# EAGLE library part B14B-PH-* (library jst-ph1)
Wire-to-Board 2.0mm pitch top mount connector Source: http://www.jst-mfg.com/product/pdf/jpn/PH.pdf http://www.jst-mfg.com/product/detail.php?series=199
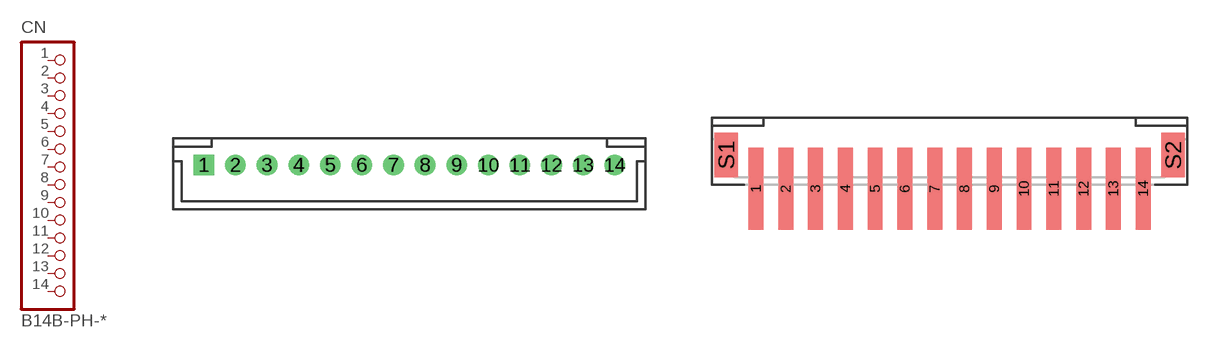
[diagram p8: symbol with the pads of B14B-PH-K-S; footprints B14B-PH-K-S, B14B-PH-SM4-TB]

Designator prefix CN

## B14B-PH-K-S  [B14B-PH-K-S]
1  1  pas
2  2  pas
3  3  pas
4  4  pas
5  5  pas
6  6  pas
7  7  pas
8  8  pas
9  9  pas
10  10  pas
11  11  pas
12  12  pas
13  13  pas
14  14  pas

## B14B-PH-SM4-TB  [B14B-PH-SM4-TB]
Pads as for B14B-PH-K-S

## Footprint B14B-PH-K-S (pad centres in mm)
drill 0.8 square: 1 -13,0
drill 0.8: 2 -11,0; 3 -9,0; 4 -7,0; 5 -5,0; 6 -3,0; 7 -1,0; 8 1,0; 9 3,0; 10 5,0; 11 7,0; 12 9,0; 13 11,0; 14 13,0

## Footprint B14B-PH-SM4-TB (pad centres in mm)
smd 1 x 5.5: 1 -13,-3.05; 2 -11,-3.05; 3 -9,-3.05; 4 -7,-3.05; 5 -5,-3.05; 6 -3,-3.05; 7 -1,-3.05; 8 1,-3.05; 9 3,-3.05; 10 5,-3.05; 11 7,-3.05; 12 9,-3.05; 13 11,-3.05; 14 13,-3.05
smd 1.6 x 3: S1 -15,-0.8; S2 15,-0.8